# EAGLE library part PCF8575PW (library crasbe)
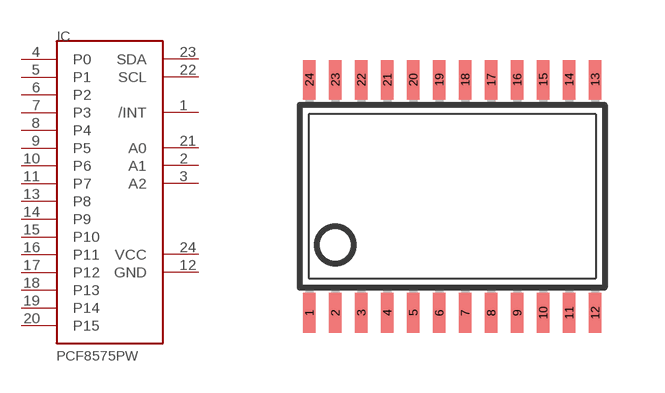
[diagram p29: symbol with the pads of TSSOP-24; footprint TSSOP-24]

Designator prefix IC

## PCF8575PW  [TSSOP-24]
1  /INT  out
2  A1  in
3  A2  in
4  P0
5  P1
6  P2
7  P3
8  P4
9  P5
10  P6
11  P7
12  GND  pwr
13  P8
14  P9
15  P10
16  P11
17  P12
18  P13
19  P14
20  P15
21  A0  in
22  SCL  in
23  SDA
24  VCC  pwr

## Footprint TSSOP-24 (pad centres in mm)
smd 0.305 x 0.991: 1 -3.575,-2.918; 2 -2.925,-2.918; 3 -2.275,-2.918; 4 -1.625,-2.918; 5 -0.975,-2.918; 6 -0.325,-2.918; 7 0.325,-2.918; 8 0.975,-2.918; 9 1.625,-2.918; 10 2.275,-2.918; 11 2.925,-2.918; 12 3.575,-2.918; 13 3.575,2.918; 14 2.925,2.918; 15 2.275,2.918; 16 1.625,2.918; 17 0.975,2.918; 18 0.325,2.918; 19 -0.325,2.918; 20 -0.975,2.918; 21 -1.625,2.918; 22 -2.275,2.918; 23 -2.925,2.918; 24 -3.575,2.918